# Altium footprint library ANTC320X160X135L40N.PcbLib: 1 footprints
Each footprint in its own frame and in the unit in brackets; x right, y up, seen from the top. Pads: shape width x height; smd on the part's side, far side on the other; paste and mask are expansions set on the pad; w line width, h text height; cw(c..) or ccw(c..) is an arc to the next point about the centre after c.
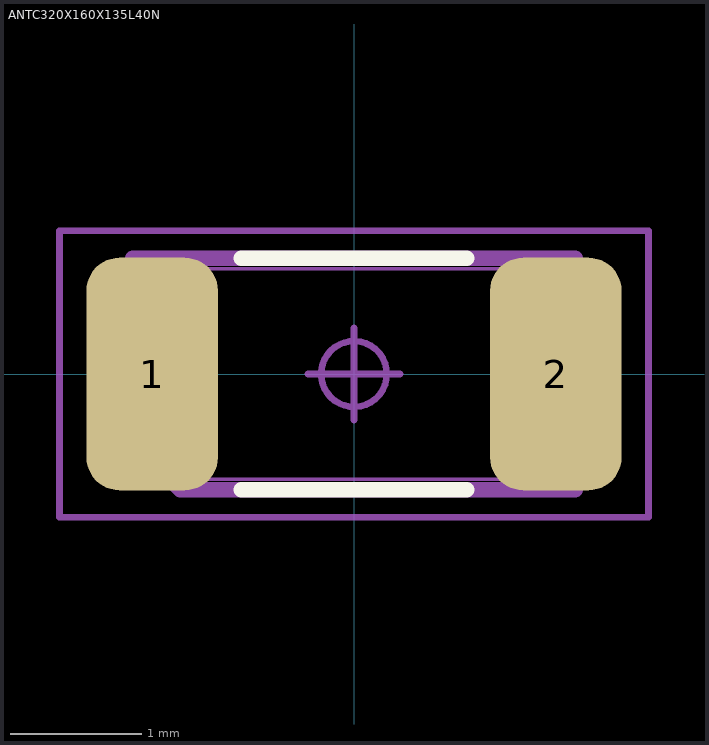
[diagram p0: the footprint, top view; thin cyan lines are the x and y axes]

## ANTC320X160X135L40N [mm] "Antenna, Chip; 3.20 mm L X 1.60 mm W X 1.35 mm H body"
height 1.35
pads (2):
  rrect50% 1x1.77 smd: 1(-1.535,0) 2(1.535,0)
Top Overlay:
  lines w0.12: -0.855,-0.88 0.855,-0.88 ; -0.855,0.88 0.855,0.88
Mechanical 3:
  lines w0.12: -1.68,-0.52 -1.32,-0.88 1.68,-0.88 1.68,0.88 -1.68,0.88 -1.68,-0.52
Mechanical 5:
  lines w0.025: -1.6,-0.8 1.6,-0.8 ; -1.6,-0.8 -1.6,0.8 ; -1.6,-0.8 -1.6,0.8 ; -1.6,-0.8 -1.2,-0.8 -1.2,0.8 -1.6,0.8 ; -1.6,0.8 1.6,0.8 ; 1.6,-0.8 1.6,0.8 ; 1.6,-0.8 1.2,-0.8 1.2,0.8 1.6,0.8 ; 1.6,-0.8 1.6,0.8
Mechanical 7:
  circle w0.05: c0,0 r0.25
  lines w0.05: -0.35,0 0.35,0 ; 0,-0.35 0,0.35 ; -2.24,-1.09 2.24,-1.09 2.24,1.09 -2.24,1.09 -2.24,-1.09
Mechanical 9:
  text "'.Designator'" at -5.08,-0.604 h1
3D body: height 0.03, standoff 0, extent -2.24,-1.09 2.24,1.09
3D body "ANTC320X160X135L40.STEP": height 1.35, standoff 0, extent -1.6,-0.8 1.6,0.8
3D body: height 1.04, standoff 0, extent -2.24,-1.09 2.24,1.09